# EAGLE library part MSXCARDEDGE50 (library CardEdge)
For MSX ROMCardEdge 50Pin
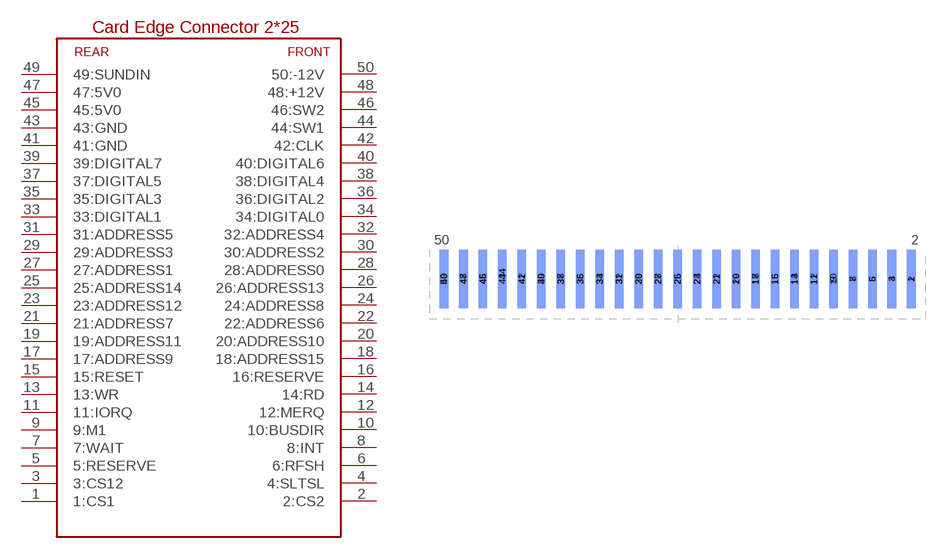
[diagram p0: symbol with the pads of MSXEDGE50PIN; footprint MSXEDGE50PIN]

Designator prefix -

## MSXCARDEDGE50  [MSXEDGE50PIN]
1  1:CS1  out
2  2:CS2  out
3  3:CS12  out
4  4:SLTSL  out
5  5:RESERVE  nc
6  6:RFSH
7  7:WAIT  in
8  8:INT  oc
9  9:M1  out
10  10:BUSDIR  in
11  11:IORQ  out
12  12:MERQ  out
13  13:WR  out
14  14:RD  out
15  15:RESET  out
16  16:RESERVE  nc
17  17:ADDRESS9  out
18  18:ADDRESS15  out
19  19:ADDRESS11  out
20  20:ADDRESS10  out
21  21:ADDRESS7  out
22  22:ADDRESS6  out
23  23:ADDRESS12  out
24  24:ADDRESS8  out
25  25:ADDRESS14  out
26  26:ADDRESS13  out
27  27:ADDRESS1  out
28  28:ADDRESS0  out
29  29:ADDRESS3  out
30  30:ADDRESS2  out
31  31:ADDRESS5  out
32  32:ADDRESS4  out
33  33:DIGITAL1
34  34:DIGITAL0
35  35:DIGITAL3
36  36:DIGITAL2
37  37:DIGITAL5
38  38:DIGITAL4
39  39:DIGITAL7
40  40:DIGITAL6
41  41:GND  sup
42  42:CLK  out
43  43:GND  sup
44  44:SW1  nc
45  45:5V0  sup
46  46:SW2  nc
47  47:5V0  sup
48  48:+12V  nc
49  49:SUNDIN  in
50  50:-12V  nc

## Footprint MSXEDGE50PIN (pad centres in mm)
smd 1.27 x 7.62 bottom: 1 30.48,0; 3 27.94,0; 5 25.4,0; 7 22.86,0; 9 20.32,0; 11 17.78,0; 13 15.24,0; 15 12.7,0; 17 10.16,0; 19 7.62,0; 21 5.08,0; 23 2.54,0; 25 0,0; 27 -2.54,0; 29 -5.08,0; 31 -7.62,0; 33 -10.16,0; 35 -12.7,0; 37 -15.24,0; 39 -17.78,0; 41 -20.32,0; 43 -22.86,0; 45 -25.4,0; 47 -27.94,0; 49 -30.48,0
smd 1.27 x 7.62: 2 30.48,0; 4 27.94,0; 6 25.4,0; 8 22.86,0; 10 20.32,0; 12 17.78,0; 14 15.24,0; 16 12.7,0; 18 10.16,0; 20 7.62,0; 22 5.08,0; 24 2.54,0; 26 0,0; 28 -2.54,0; 30 -5.08,0; 32 -7.62,0; 34 -10.16,0; 36 -12.7,0; 38 -15.24,0; 40 -17.78,0; 42 -20.32,0; 46 -25.4,0; 48 -27.94,0; 50 -30.48,0
smd 1.27 x 6.35: 44 -22.86,0.635